# EAGLE library part ATNEL-WIFI232-T (library ATNEL-WIFI232-T)
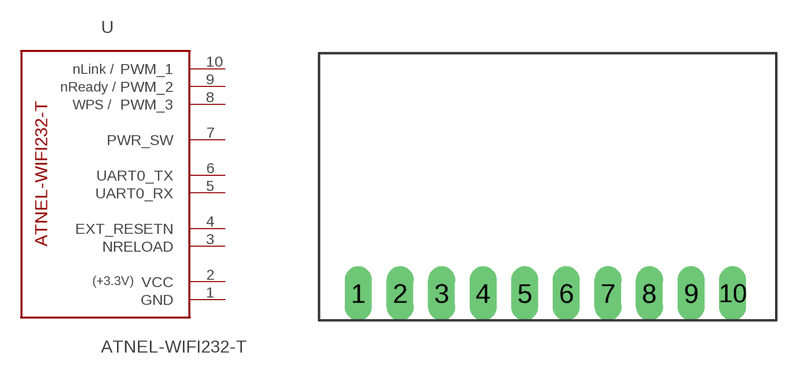
[diagram p0: symbol with the pads of ATNEL-WIFI232-T; footprint ATNEL-WIFI232-T]

Designator prefix -

## ATNEL-WIFI232-T  [ATNEL-WIFI232-T]
1  GND
2  VCC
3  NRELOAD  in
4  EXT_RESETN  in
5  UART0_RX  in
6  UART0_TX  out
7  PWR_SW  in
8  PWM_3
9  PWM_2
10  PWM_1

## Footprint ATNEL-WIFI232-T (pad centres in mm)
drill 0.8 pad 1.27 long: 1 -9.1,-5.45; 2 -7.1,-5.45; 3 -5.1,-5.45; 4 -3.1,-5.45; 5 -1.1,-5.45; 6 0.9,-5.45; 7 2.9,-5.45; 8 4.9,-5.45; 9 6.9,-5.45; 10 8.9,-5.45